# EAGLE library part TPS3700DDCR (library TPS3700DDCR)
High-voltage (18-V) window voltage detector for overvoltage and undervoltage monitoring 6-SOT-23-THIN -40 to 125 Check prices <https://pricing.snapeda.com/parts/TPS3700DDCR/Texas%20Instruments/view-part?ref=eda>
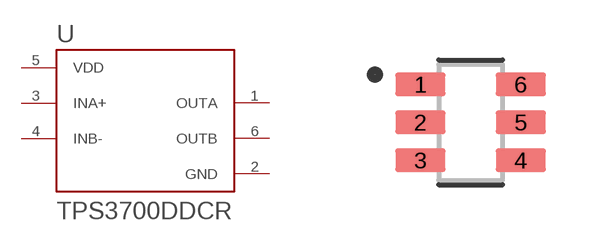
[diagram p0: symbol with the pads of SOT95P280X110-6N; footprint SOT95P280X110-6N]

Designator prefix U

## TPS3700DDCR (Availability: Warning; Description: High-voltage (18-V) window voltage detector for overvoltage and undervoltage monitoring 6-SOT-23-THIN -40 to 125; MF: Texas Instruments; MP: TPS3700DDCR; Package: SOT-23-THN-6 Texas Instruments; Price: None; Purchase-URL: https://pricing.snapeda.com/search/part/TPS3700DDCR/?ref=eda)  [SOT95P280X110-6N]
1  OUTA  out
2  GND  pwr
3  INA+  in
4  INB-  in
5  VDD  pwr
6  OUTB  out

## Footprint SOT95P280X110-6N (pad centres in mm)
smd 1.25 x 0.59: 1 -1.255,0.95; 2 -1.255,0; 3 -1.255,-0.95; 4 1.255,-0.95; 5 1.255,0; 6 1.255,0.95